# Altium footprint library ITU_Rocket_Main_Board.PcbLib: 34 footprints (part 2 of 3)
Each footprint in its own frame and in the unit in brackets; x right, y up, seen from the top. Pads: shape width x height; smd on the part's side, far side on the other; paste and mask are expansions set on the pad; w line width, h text height; cw(c..) or ccw(c..) is an arc to the next point about the centre after c.
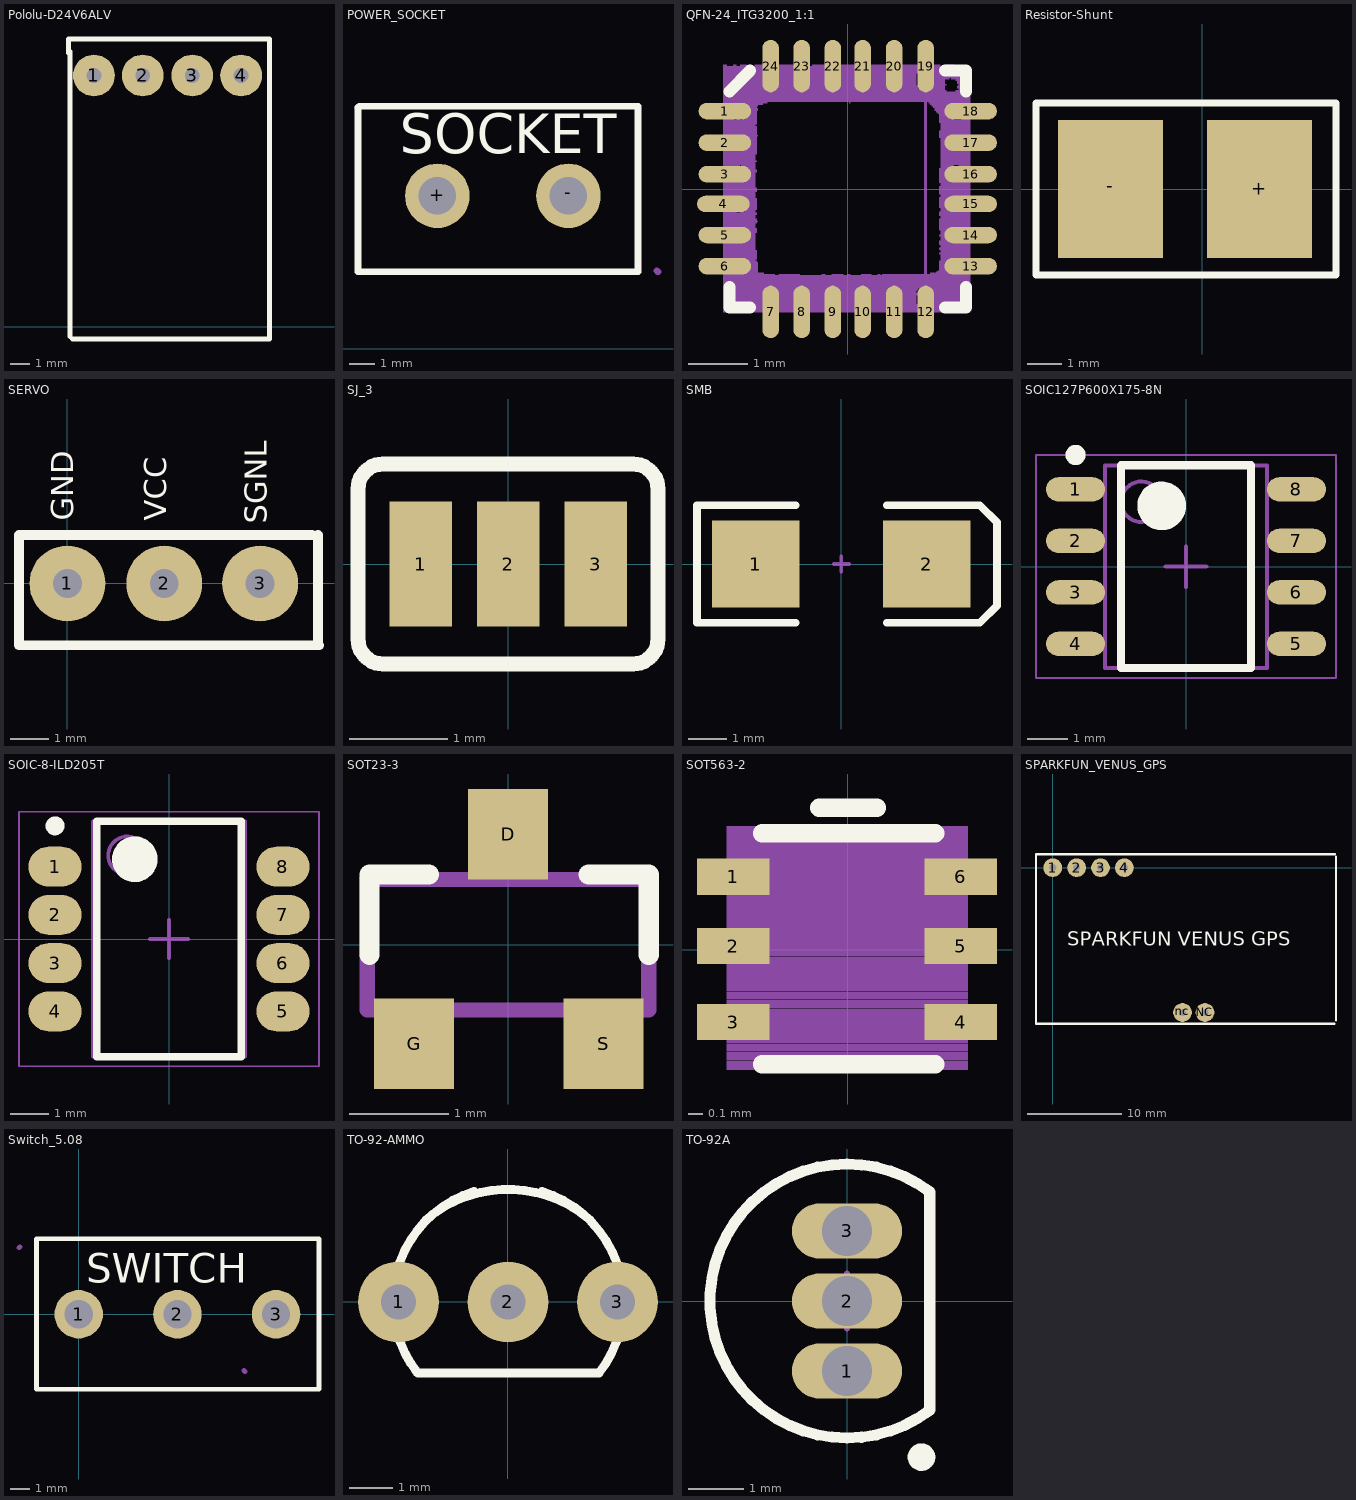
[diagram p1: the footprints below, top view; thin cyan lines are the x and y axes]

## PCBComponent_1 - duplicate1 [mil]

## Pololu-D24V6ALV [mil]
pads (4):
  round 85 hole 30: 1(429.13,510.83) 2(528.35,510.83) 3(629.13,510.83) 4(728.35,510.83)
Top Overlay:
  lines w10: 376.97,556.1 376.97,585 786.42,585 786.42,-25 385,-25 ; 380,-20 380,560
3D body: height 20, standoff 5, extent 385,-20 780,575

## POWER_SOCKET [mm]
pads (2):
  round 2.5 hole 1.45: +(6.575,5.925) -(11.655,5.925)
Top Overlay:
  lines w0.254: 3.5,9.35 3.5,8.3 3.5,2.975 14.351,2.975 14.351,9.4 3.55,9.4
  text "SOCKET" at 5.125,7.575 h1.52
Mechanical 1:
  lines w0.254: 3.5,9.35 3.55,9.4 ; 15.075,3.025 15.125,2.975
3D body: height 10.05, standoff -3.35, extent 3.725,2.05 14.275,10.25

## QFN-24_ITG3200_1:1 [mil]
pads (24):
  rrect100% 35x11 smd: 1(-81.74,52) 2(-81.74,31) 3(-81.74,10) 4(-82.74,-9.84) 5(-81.74,-30.53) 6(-81.74,-51.21) 13(82,-51.21) 14(82,-30.53) 15(82,-9.84) 16(82,10) 17(82,31) 18(82,52)
  rrect100% 11x35 smd: 7(-51.21,-81.74) 8(-30.53,-81.74) 9(-9.84,-81.74) 10(10,-81.74) 11(31,-81.74) 12(52,-81.74) 19(52,82) 20(31,82) 21(10,82) 22(-9.84,82) 23(-30.53,82) 24(-51.21,82)
Top Overlay:
  lines w8: -78.74,-64.96 -78.74,-78.74 -64.96,-78.74 ; -78.74,65 -64.96,79 ; 65,-78.74 79,-78.74 79,-64.96 ; 65,79 79,79 79,65
Mechanical 2:
Mechanical 4:
Mechanical 14:
  lines w2: 52,-79.2 52,80
Mechanical 82:
  drawing of 682 lines, arcs and shapes, not listed
3D body: height 39.37, standoff 0, extent -79.13,-79.13 79.14,79.14

## Resistor-Shunt [mil]
pads (2):
  rect 120x157.48 smd: +(65,0) -(-105,0)
Top Overlay:
  lines w7.87: -190,-98.43 152.56,-98.43 152.56,98.43 -190,98.43 -190,7.44 -190,-98.43
3D body: height 35.43, standoff 0, extent -232.59,-93.42 192.6,103.43

## SERVO [mm]
pads (3):
  round 2 hole 0.762: 1(0,0) 2(2.55,0) 3(5.075,0)
Top Overlay:
  lines w0.254: 6.45,1.275 -1.275,1.275 -1.275,-1.625 6.625,-1.625 ; 6.6,-1.6 6.6,1.275
  text "SGNL" at 5.45,1.575 h1
  text "VCC" at 2.8,1.65 h1
  text "GND" at 0.35,1.65 h1
Mechanical 5:
  lines w0.254: 6.6,-1.6 6.625,-1.625
3D body: height 9.5, standoff -3.2, extent -1.27,-1.27 6.35,1.27

## SJ_3 [mil]
pads (3):
  rect 25x50 smd: 1(-35,0) 2(0,0) 3(35,0)
Top Overlay:
  lines w6: -60,-30 ccw(c-50,-30) -50,-40 50,-40 ccw(c50,-30) 60,-30 60,30 ccw(c50,30) 50,40 -50,40 ccw(c-50,30) -60,30 -60,-30
Mechanical 2:
Mechanical 4:
  text ">VALUE" at -3.94,0 h1.55

## SMB [mm] "DO-214-AA/SMB; 2 C-Bend Leads; Body 5.3 x 3.6 mm, inc. leads (LxW)"
height 2.54
pads (2):
  rect 2.3x2.3 smd: 1(-2.25,0) 2(2.25,0)
Top Overlay:
  lines w0.2: -1.2,-1.55 -3.8,-1.55 -3.8,1.55 -1.2,1.55 ; 1.2,-1.55 3.65,-1.55 4.1,-1.1 4.1,1.1 3.65,1.55 1.2,1.55
Mechanical 1:
  lines w0.1: -0.2,0 0.2,0 ; 0,-0.2 0,0.2
3D body: height 2.45, standoff 0.03, extent -2.75,-1.95 2.75,1.95

## SOIC127P600X175-8N [mm] "SOIC, 8-Leads, Body 4,90x3,90mm, Pitch 1,27mm, IPC Medium Density"
height 1.75
pads (8):
  oval 1.45x0.6 smd: 1(-2.725,1.905) 2(-2.725,0.635) 3(-2.725,-0.635) 4(-2.725,-1.905) 5(2.725,-1.905) 6(2.725,-0.635) 7(2.725,0.635) 8(2.725,1.905)
Top Overlay:
  circle w0.6: c-0.6,1.5 r0.3
  circle w0.25: c-2.725,2.755 r0.125
  lines w0.2: -1.6,-2.5 1.6,-2.5 1.6,2.5 -1.6,2.5 -1.6,-2.5
Mechanical 13:
  circle w0.1: c-1.1,1.6 r0.5
  lines w0.1: -2,-2.5 2,-2.5 2,2.5 -2,2.5 -2,-2.5
Mechanical 15:
  lines w0.05: -3.7,-2.75 3.7,-2.75 3.7,2.75 -3.7,2.75 -3.7,-2.75
  lines w0.1: -0.5,0 0.5,0 ; 0,-0.5 0,0.5
3D body: height 1.75, standoff 0.1, extent -2,-2.5 2,2.5

## SOIC-8-ILD205T [mm] "SOIC, 8-Leads, Body 6,00x3,96mm, Pitch 1,27mm, IPC Medium Density"
height 1.75
pads (8):
  oval 1.4x1.05 smd: 1(-3,1.905) 2(-3,0.635) 3(-3,-0.635) 4(-3,-1.905) 5(3,-1.905) 6(3,-0.635) 7(3,0.635) 8(3,1.905)
Top Overlay:
  circle w0.6: c-0.9,2.1 r0.3
  circle w0.25: c-3,2.98 r0.125
  lines w0.2: -1.9,-3.1 1.9,-3.1 1.9,3.1 -1.9,3.1 -1.9,-3.1
Mechanical 13:
  circle w0.1: c-1.1,2.2 r0.5
  lines w0.1: -2,-3.1 2,-3.1 2,3.1 -2,3.1 -2,-3.1
Mechanical 15:
  lines w0.05: -3.95,-3.35 3.95,-3.35 3.95,3.35 -3.95,3.35 -3.95,-3.35
  lines w0.1: -0.5,0 0.5,0 ; 0,-0.5 0,0.5
3D body: height 1.75, standoff 0.1, extent -2,-3.1 2,3.1

## SOT23-3 [mil]
pads (3):
  rect 32x36 smd: D(0,44) G(-37.4,-39.37) S(38,-39.37)
Top Overlay:
  lines w8: -55.12,-3.94 -55.12,28 -31.5,28 ; 32,28 56,28 56,-3.94
Mechanical 2:
Mechanical 4:
Mechanical 16:
  lines w6: -56,-26 56,-26 56,26 -56,26 -56,-26
3D body: height 39.37, standoff 0, extent -58.11,-50.2 60,50.2

## SOT563-2 [mil]
pads (6):
  rect 20x10 smd: 1(-31.5,20) 2(-31.5,1) 3(-31.5,-19.91) 4(31,-19.91) 5(31,1) 6(31,20)
Top Overlay:
  lines w5: -23.62,-31.5 24,-31.5 ; -23.62,32 24,32 ; -7.87,39 8,39
Mechanical 14:
  lines w0: -33.02,6 32,6
Mechanical 82:
  drawing of 227 lines, arcs and shapes, not listed
Mechanical 83:
  drawing of 414 lines, arcs and shapes, not listed
  text "C:/Users/kade.jensen/Desktop/IC-09303.bmp" at -33.28,-34.32 h0.85
3D body: height 23, standoff 0, extent -32,-30.51 32,32.49

## SPARKFUN_VENUS_GPS [mm]
pads (6):
  round 2 hole 0.762: 1(0,0) 2(2.54,0) 3(5.08,0) 4(7.62,0) nc(13.8,-15.4) NC(16.19,-15.4)
Top Overlay:
  lines w0.254: 29.95,-16.6 -1.78,-16.6 -1.78,1.425 30,1.425 ; 30.125,-16.25 30.125,1.175
  text "SPARKFUN VENUS GPS" at 1.55,-8.325 h1.52
3D body: height 5, standoff 1.4, extent -1.087,-16.975 31.838,1.975

## Switch_5.08 [mm]
pads (3):
  round 2.5 hole 1.45: 1(0,0) 2(5.08,0) 3(10.16,0)
Top Overlay:
  lines w0.254: -2.184,-3.861 -2.184,3.266 -2.184,3.886 12.37,3.886 12.37,-3.861 -2.184,-3.861
  text "SWITCH" at 0.381,1.626 h1.52
Mechanical 1:
  lines w0.254: -3.075,3.425 -3.025,3.475 ; 8.5,-2.9 8.55,-2.95
3D body: height 10.3, standoff -3.9, extent -1.97,-3.75 12.13,3.75

## TO-92-AMMO [mil]
pads (3):
  round 74 hole 32: 1(-100,0) 2(0,0) 3(100,0)
Top Overlay:
  lines w8: -75,75 cw(c0,-12.5) 25,100 ; -30.96,101 ccw(c0.23,0.33) -82.46,-65 83,-65 ccw(c0.06,0.16) 31,101 ; -25,100 cw(c0,-12.5) 25,100 ; 75,75 ccw(c0,-12.5) 25,100
Mechanical 2:
Mechanical 4:
3D body: height 220.47, standoff -82.68, extent -109.84,-62.99 109.85,93.2

## TO-92A [mm] "TO, Flat Index; 3 In-Line, Axial Leads; Body Dia. 4.5mm; Leads 0.51 x 0.48 mm (max)"
height 6.86
pads (3):
  oval 2x1 hole 0.9: 1(0,-1.27) 2(0,0) 3(0,1.27)
Top Overlay:
  circle w0.25: c1.35,-2.83 r0.125
  lines w0.2: 1.5,-1.98 cw(c0,0) 1.5,1.98 1.5,-1.98
Mechanical 13:
  lines w0.1: 1.5,-1.98 cw(c0,0) 1.5,1.98 1.5,-1.98
Mechanical 15:
  lines w0.1: -0.5,0 0.5,0 ; 0,-0.5 0,0.5
3D body: height 6.86, standoff 2.2, extent -2.497,-2.497 1.501,2.497